# Altium schematic symbol library WL-SMCW_1206.SchLib: 1 symbol
Pins are listed as number, name and electrical type; pins without a type are passive.

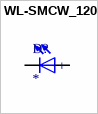
[diagram p0: symbol WL-SMCW_1206]

## WL-SMCW_1206
designator D?
1206, Blue Typ.(@20mA): 470nm, 145mcd, 3.2V, 140Â° InGaN; MF: Wurth Electronics; MP: 150120BS75000; SnapEDA_Link: https://www.snapeda.com/parts/150120BS75000/Wurth+Electronics/view-part/?ref=snap; Package: 1206 Wurth Electronics; Value: *; Check_prices: https://www.snapeda.com/parts/150120BS75000/Wurth+Electronics/view-part/?ref=eda
footprint WL-SMCW_1206
pins: 1 NEG, 2 POS
text: +